# Altium schematic symbol library Device.SchLib: 595 symbols (part 3 of 4)
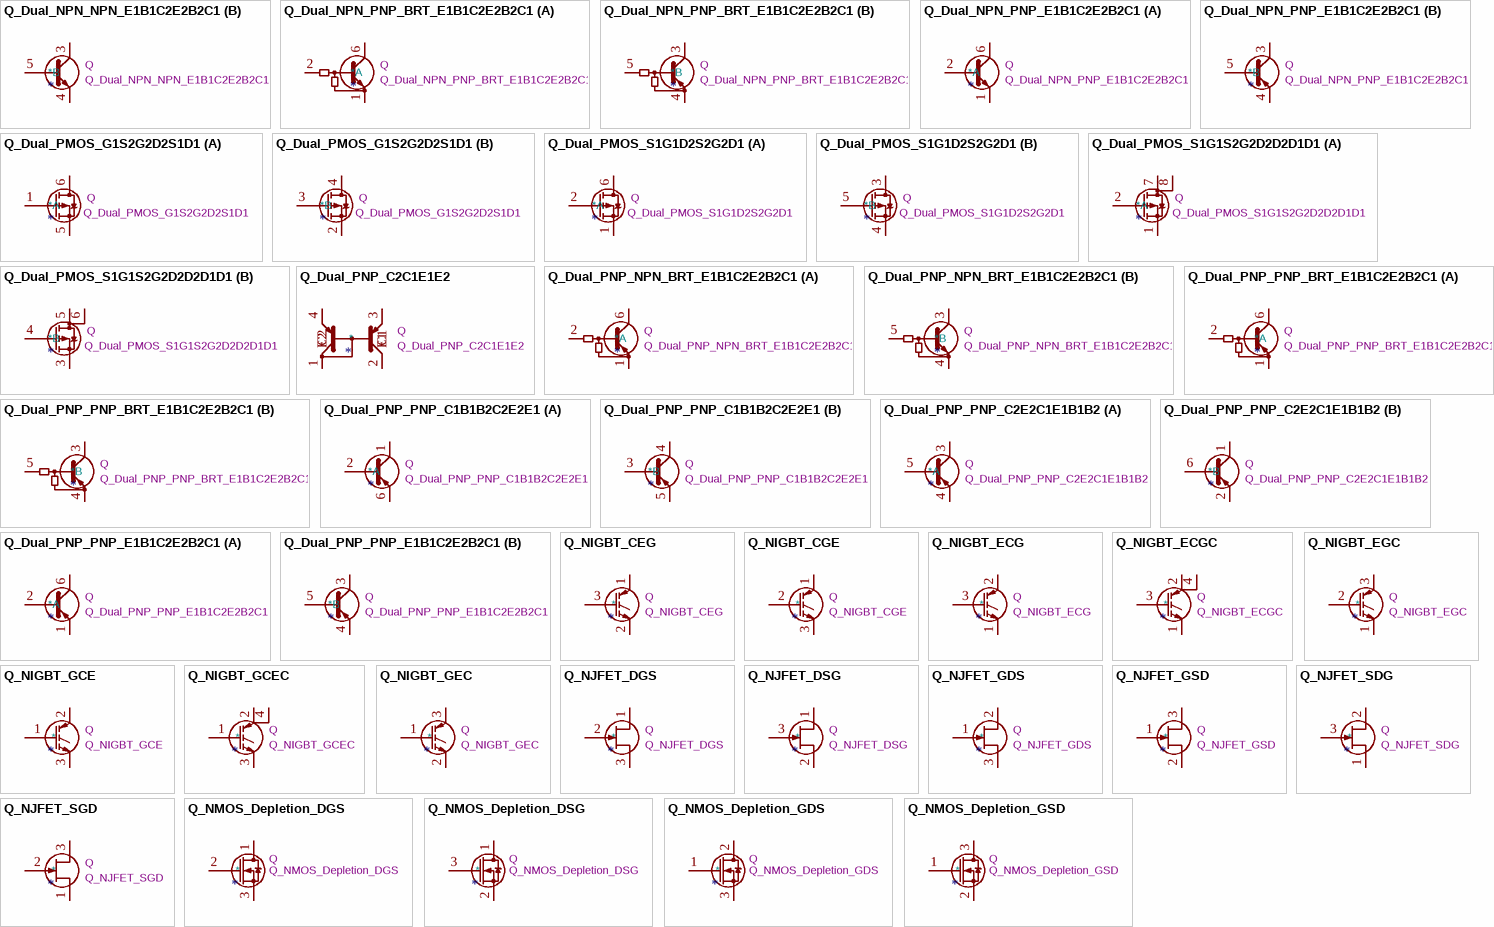
[diagram p22: symbols Q_Dual_NPN_NPN_E1B1C2E2B2C1 to Q_NMOS_Depletion_GSD]

## Q_NMOS_Depletion_DGS
designator *  value Q_NMOS_Depletion_DGS  Reference: Q
Depletion-mode N-channel MOSFET, drain/gate/source; Datasheet: ~; Description_: Depletion-mode N-channel MOSFET, drain/gate/source; ki_keywords: Depletion-mode N-channel MOSFET
pins: 1 D, 2 G, 3 S

## Q_NMOS_Depletion_DSG
designator *  value Q_NMOS_Depletion_DSG  Reference: Q
Depletion-mode N-channel MOSFET drain/source/gate; Datasheet: ~; Description_: Depletion-mode N-channel MOSFET drain/source/gate; ki_keywords: Depletion-mode N-channel MOSFET
pins: 1 D, 2 S, 3 G

## Q_NMOS_Depletion_GDS
designator *  value Q_NMOS_Depletion_GDS  Reference: Q
Depletion-mode N-channel MOSFET gate/drain/source; Datasheet: ~; Description_: Depletion-mode N-channel MOSFET gate/drain/source; ki_keywords: Depletion-mode N-channel MOSFET
pins: 1 G, 2 D, 3 S

## Q_NMOS_Depletion_GSD
designator *  value Q_NMOS_Depletion_GSD  Reference: Q
Depletion-mode N-channel MOSFET gate/source/drain; Datasheet: ~; Description_: Depletion-mode N-channel MOSFET gate/source/drain; ki_keywords: Depletion-mode N-channel MOSFET
pins: 1 G, 2 S, 3 D

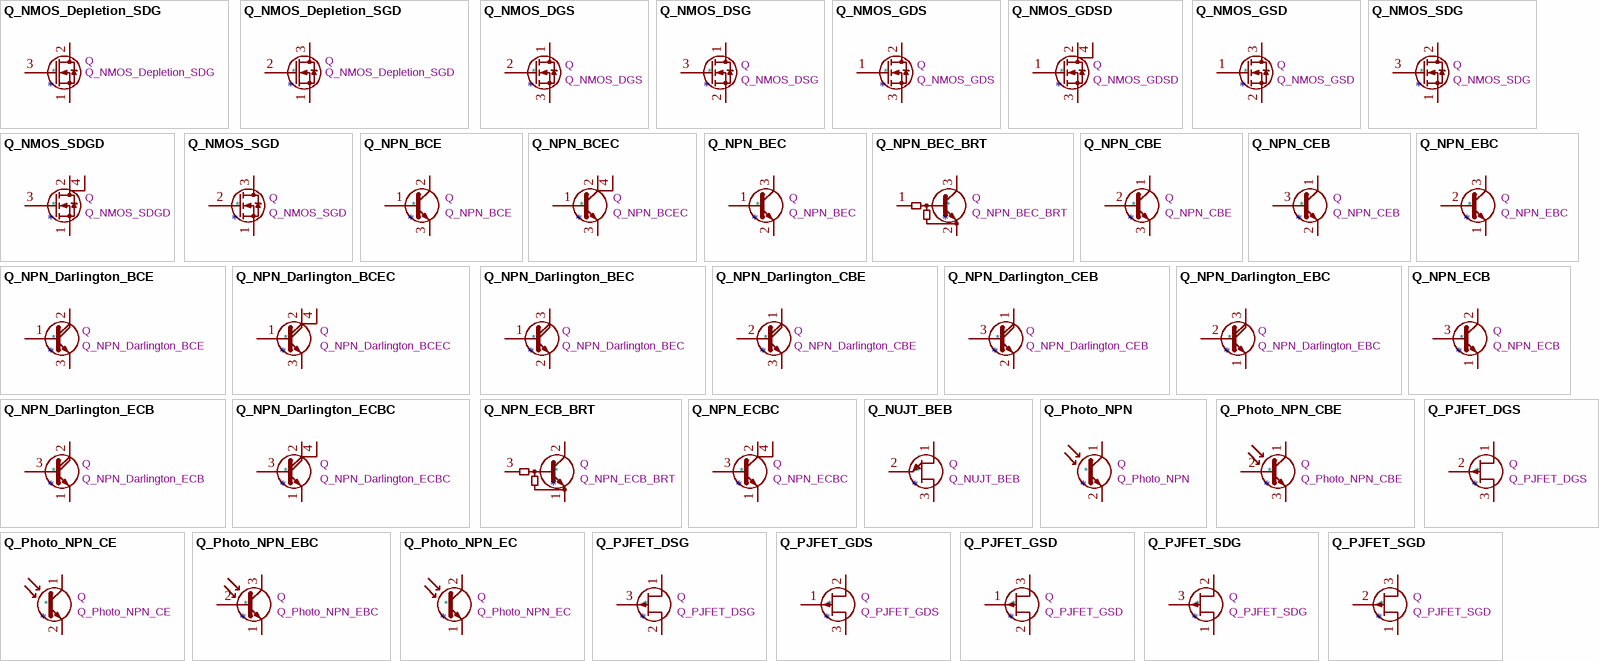
[diagram p11: symbols Q_NMOS_Depletion_SDG to Q_PJFET_SGD]

## Q_NMOS_Depletion_SDG
designator *  value Q_NMOS_Depletion_SDG  Reference: Q
Depletion-mode N-channel MOSFET source/drain/gate; Datasheet: ~; Description_: Depletion-mode N-channel MOSFET source/drain/gate; ki_keywords: Depletion-mode N-channel MOSFET
pins: 1 S, 2 D, 3 G

## Q_NMOS_Depletion_SGD
designator *  value Q_NMOS_Depletion_SGD  Reference: Q
Depletion-mode N-channel MOSFET source/gate/drain; Datasheet: ~; Description_: Depletion-mode N-channel MOSFET source/gate/drain; ki_keywords: Depletion-mode N-channel MOSFET
pins: 1 S, 2 G, 3 D

## Q_NMOS_DGS
designator *  value Q_NMOS_DGS  Reference: Q
N-MOSFET transistor, drain/gate/source; ki_keywords: transistor NMOS N-MOS N-MOSFET; Datasheet: ~; Description_: N-MOSFET transistor, drain/gate/source
pins: 1 D, 2 G, 3 S

## Q_NMOS_DSG
designator *  value Q_NMOS_DSG  Reference: Q
N-MOSFET transistor, drain/source/gate; ki_keywords: transistor NMOS N-MOS N-MOSFET; Datasheet: ~; Description_: N-MOSFET transistor, drain/source/gate
pins: 1 D, 2 S, 3 G

## Q_NMOS_GDS
designator *  value Q_NMOS_GDS  Reference: Q
N-MOSFET transistor, gate/drain/source; ki_keywords: transistor NMOS N-MOS N-MOSFET; Datasheet: ~; Description_: N-MOSFET transistor, gate/drain/source
pins: 1 G, 2 D, 3 S

## Q_NMOS_GDSD
designator *  value Q_NMOS_GDSD  Reference: Q
N-MOSFET transistor, gate/drain/source, drain connected to mounting plane; ki_keywords: transistor NMOS N-MOS N-MOSFET; Datasheet: ~; Description_: N-MOSFET transistor, gate/drain/source, drain connected to mounting plane
pins: 1 G, 2 D, 3 S, 4 D

## Q_NMOS_GSD
designator *  value Q_NMOS_GSD  Reference: Q
N-MOSFET transistor, gate/source/drain; ki_keywords: transistor NMOS N-MOS N-MOSFET; Datasheet: ~; Description_: N-MOSFET transistor, gate/source/drain
pins: 1 G, 2 S, 3 D

## Q_NMOS_SDG
designator *  value Q_NMOS_SDG  Reference: Q
N-MOSFET transistor, source/drain/gate; ki_keywords: transistor NMOS N-MOS N-MOSFET; Datasheet: ~; Description_: N-MOSFET transistor, source/drain/gate
pins: 1 S, 2 D, 3 G

## Q_NMOS_SDGD
designator *  value Q_NMOS_SDGD  Reference: Q
N-MOSFET transistor, source/drain/gate, drain connected to mounting plane; ki_keywords: transistor NMOS N-MOS N-MOSFET; Datasheet: ~; Description_: N-MOSFET transistor, source/drain/gate, drain connected to mounting plane
pins: 1 S, 2 D, 3 G, 4 D

## Q_NMOS_SGD
designator *  value Q_NMOS_SGD  Reference: Q
N-MOSFET transistor, source/gate/drain; ki_keywords: transistor NMOS N-MOS N-MOSFET; Datasheet: ~; Description_: N-MOSFET transistor, source/gate/drain
pins: 1 S, 2 G, 3 D

## Q_NPN_BCE
designator *  value Q_NPN_BCE  Reference: Q
NPN transistor, base/collector/emitter; ki_keywords: transistor NPN; Datasheet: ~; Description_: NPN transistor, base/collector/emitter
pins: 1 B, 2 C, 3 E

## Q_NPN_BCEC
designator *  value Q_NPN_BCEC  Reference: Q
NPN transistor, base/collector/emitter, collector connected to mounting plane; ki_keywords: transistor NPN; Datasheet: ~; Description_: NPN transistor, base/collector/emitter, collector connected to mounting plane
pins: 1 B, 2 C, 3 E, 4 C

## Q_NPN_BEC
designator *  value Q_NPN_BEC  Reference: Q
NPN transistor, base/emitter/collector; ki_keywords: transistor NPN; Datasheet: ~; Description_: NPN transistor, base/emitter/collector
pins: 1 B, 2 E, 3 C

## Q_NPN_BEC_BRT
designator *  value Q_NPN_BEC_BRT  Reference: Q
NPN bias resistor transistor, base/emitter/collector; ki_keywords: transistor NPN; Datasheet: ~; Description_: NPN bias resistor transistor, base/emitter/collector
pins: 1 B, 2 E, 3 C

## Q_NPN_CBE
designator *  value Q_NPN_CBE  Reference: Q
NPN transistor, collector/base/emitter; ki_keywords: transistor NPN; Datasheet: ~; Description_: NPN transistor, collector/base/emitter
pins: 1 C, 2 B, 3 E

## Q_NPN_CEB
designator *  value Q_NPN_CEB  Reference: Q
NPN transistor, collector/emitter/base; ki_keywords: transistor NPN; Datasheet: ~; Description_: NPN transistor, collector/emitter/base
pins: 1 C, 2 E, 3 B

## Q_NPN_Darlington_BCE
designator *  value Q_NPN_Darlington_BCE  Reference: Q
NPN Darlington transistor, base/collector/emitter; ki_keywords: transistor NPN Darlington; Datasheet: ~; Description_: NPN Darlington transistor, base/collector/emitter
pins: 1 B, 2 C, 3 E

## Q_NPN_Darlington_BCEC
designator *  value Q_NPN_Darlington_BCEC  Reference: Q
NPN Darlington transistor, base/collector/emitter, collector connected to mounting plane; ki_keywords: transistor NPN Darlington; Datasheet: ~; Description_: NPN Darlington transistor, base/collector/emitter, collector connected to mounting plane
pins: 1 B, 2 C, 3 E, 4 C2

## Q_NPN_Darlington_BEC
designator *  value Q_NPN_Darlington_BEC  Reference: Q
NPN Darlington transistor, base/emitter/collector; ki_keywords: transistor NPN Darlington; Datasheet: ~; Description_: NPN Darlington transistor, base/emitter/collector
pins: 1 B, 2 E, 3 C

## Q_NPN_Darlington_CBE
designator *  value Q_NPN_Darlington_CBE  Reference: Q
NPN Darlington transistor, collector/base/emitter; ki_keywords: transistor NPN Darlington; Datasheet: ~; Description_: NPN Darlington transistor, collector/base/emitter
pins: 1 C, 2 B, 3 E

## Q_NPN_Darlington_CEB
designator *  value Q_NPN_Darlington_CEB  Reference: Q
NPN Darlington transistor, collector/emitter/base; ki_keywords: transistor NPN Darlington; Datasheet: ~; Description_: NPN Darlington transistor, collector/emitter/base
pins: 1 C, 2 E, 3 B

## Q_NPN_Darlington_EBC
designator *  value Q_NPN_Darlington_EBC  Reference: Q
NPN Darlington transistor, emitter/base/collector; ki_keywords: transistor NPN Darlington; Datasheet: ~; Description_: NPN Darlington transistor, emitter/base/collector
pins: 1 E, 2 B, 3 C

## Q_NPN_Darlington_ECB
designator *  value Q_NPN_Darlington_ECB  Reference: Q
NPN Darlington transistor, emitter/collector/base; ki_keywords: transistor NPN Darlington; Datasheet: ~; Description_: NPN Darlington transistor, emitter/collector/base
pins: 1 E, 2 C, 3 B

## Q_NPN_Darlington_ECBC
designator *  value Q_NPN_Darlington_ECBC  Reference: Q
NPN Darlington transistor, emitter/collector/base, collector connected to mounting plane; ki_keywords: transistor NPN Darlington; Datasheet: ~; Description_: NPN Darlington transistor, emitter/collector/base, collector connected to mounting plane
pins: 1 E, 2 C, 3 B, 4 C2

## Q_NPN_EBC
designator *  value Q_NPN_EBC  Reference: Q
NPN transistor, emitter/base/collector; ki_keywords: transistor NPN; Datasheet: ~; Description_: NPN transistor, emitter/base/collector
pins: 1 E, 2 B, 3 C

## Q_NPN_ECB
designator *  value Q_NPN_ECB  Reference: Q
NPN transistor, emitter/collector/base; ki_keywords: transistor NPN; Datasheet: ~; Description_: NPN transistor, emitter/collector/base
pins: 1 E, 2 C, 3 B

## Q_NPN_ECB_BRT
designator *  value Q_NPN_ECB_BRT  Reference: Q
NPN transistor, emitter/collector/base; ki_keywords: transistor NPN; Datasheet: ~; Description_: NPN transistor, emitter/collector/base
pins: 1 E, 2 C, 3 B

## Q_NPN_ECBC
designator *  value Q_NPN_ECBC  Reference: Q
NPN transistor, emitter/collector/base, collector connected to mounting plane; ki_keywords: transistor NPN; Datasheet: ~; Description_: NPN transistor, emitter/collector/base, collector connected to mounting plane
pins: 1 E, 2 C, 3 B, 4 C

## Q_NUJT_BEB
designator *  value Q_NUJT_BEB  Reference: Q
N-Type unijunction transistor; ki_keywords: transistor UJT; Datasheet: ~; Description_: N-Type unijunction transistor
pins: 1 B2, 2 E, 3 B1

## Q_Photo_NPN
designator *  value Q_Photo_NPN  Reference: Q
NPN phototransistor, collector/emitter; ki_keywords: phototransistor NPN; Datasheet: ~; Description_: NPN phototransistor, collector/emitter
pins: 1 C, 2 E

## Q_Photo_NPN_CBE
designator *  value Q_Photo_NPN_CBE  Reference: Q
NPN phototransistor, collector/base/emitter; ki_keywords: phototransistor NPN; Datasheet: ~; Description_: NPN phototransistor, collector/base/emitter
pins: 1 C, 2 B, 3 E

## Q_Photo_NPN_CE
designator *  value Q_Photo_NPN_CE  Reference: Q
NPN phototransistor, collector/emitter; ki_keywords: phototransistor NPN; Datasheet: ~; Description_: NPN phototransistor, collector/emitter
pins: 1 C, 2 E

## Q_Photo_NPN_EBC
designator *  value Q_Photo_NPN_EBC  Reference: Q
NPN phototransistor, emitter/base/collector; ki_keywords: phototransistor NPN; Datasheet: ~; Description_: NPN phototransistor, emitter/base/collector
pins: 1 E, 2 B, 3 C

## Q_Photo_NPN_EC
designator *  value Q_Photo_NPN_EC  Reference: Q
NPN phototransistor, emitter/collector; ki_keywords: phototransistor NPN; Datasheet: ~; Description_: NPN phototransistor, emitter/collector
pins: 1 E, 2 C

## Q_PJFET_DGS
designator *  value Q_PJFET_DGS  Reference: Q
P-JFET transistor, drain/gate/source; ki_keywords: transistor PJFET P-JFET; Datasheet: ~; Description_: P-JFET transistor, drain/gate/source
pins: 1 D, 2 G, 3 S

## Q_PJFET_DSG
designator *  value Q_PJFET_DSG  Reference: Q
P-JFET transistor, drain/source/gate; ki_keywords: transistor PJFET P-JFET; Datasheet: ~; Description_: P-JFET transistor, drain/source/gate
pins: 1 D, 2 S, 3 G

## Q_PJFET_GDS
designator *  value Q_PJFET_GDS  Reference: Q
P-JFET transistor, gate/drain/source; ki_keywords: transistor PJFET P-JFET; Datasheet: ~; Description_: P-JFET transistor, gate/drain/source
pins: 1 G, 2 D, 3 S

## Q_PJFET_GSD
designator *  value Q_PJFET_GSD  Reference: Q
P-JFET transistor, gate/source/drain; ki_keywords: transistor PJFET P-JFET; Datasheet: ~; Description_: P-JFET transistor, gate/source/drain
pins: 1 G, 2 S, 3 D

## Q_PJFET_SDG
designator *  value Q_PJFET_SDG  Reference: Q
P-JFET transistor, source/drain/gate; ki_keywords: transistor PJFET P-JFET; Datasheet: ~; Description_: P-JFET transistor, source/drain/gate
pins: 1 S, 2 D, 3 G

## Q_PJFET_SGD
designator *  value Q_PJFET_SGD  Reference: Q
P-JFET transistor, source/gate/drain; ki_keywords: transistor PJFET P-JFET; Datasheet: ~; Description_: P-JFET transistor, source/gate/drain
pins: 1 S, 2 G, 3 D

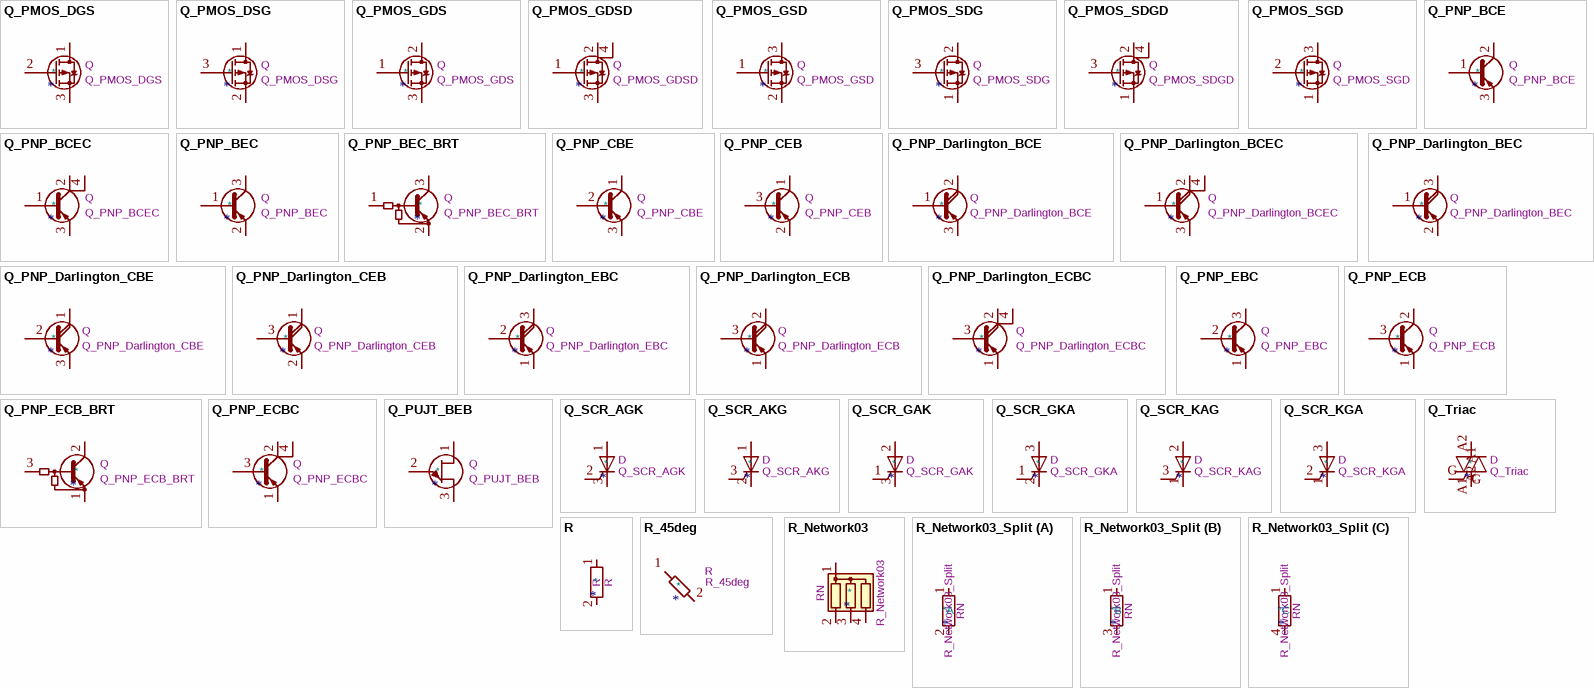
[diagram p12: symbols Q_PMOS_DGS to R_Network03_Split]

## Q_PMOS_DGS
designator *  value Q_PMOS_DGS  Reference: Q
P-MOSFET transistor, drain/gate/source; ki_keywords: transistor PMOS P-MOS P-MOSFET; Datasheet: ~; Description_: P-MOSFET transistor, drain/gate/source
pins: 1 D, 2 G, 3 S

## Q_PMOS_DSG
designator *  value Q_PMOS_DSG  Reference: Q
P-MOSFET transistor, drain/source/gate; ki_keywords: transistor PMOS P-MOS P-MOSFET; Datasheet: ~; Description_: P-MOSFET transistor, drain/source/gate
pins: 1 D, 2 S, 3 G

## Q_PMOS_GDS
designator *  value Q_PMOS_GDS  Reference: Q
P-MOSFET transistor, gate/drain/source; ki_keywords: transistor PMOS P-MOS P-MOSFET; Datasheet: ~; Description_: P-MOSFET transistor, gate/drain/source
pins: 1 G, 2 D, 3 S

## Q_PMOS_GDSD
designator *  value Q_PMOS_GDSD  Reference: Q
P-MOSFET transistor, gate/drain/source, drain connected to mounting plane; ki_keywords: transistor PMOS P-MOS P-MOSFET; Datasheet: ~; Description_: P-MOSFET transistor, gate/drain/source, drain connected to mounting plane
pins: 1 G, 2 D, 3 S, 4 D

## Q_PMOS_GSD
designator *  value Q_PMOS_GSD  Reference: Q
P-MOSFET transistor, gate/source/drain; ki_keywords: transistor PMOS P-MOS P-MOSFET; Datasheet: ~; Description_: P-MOSFET transistor, gate/source/drain
pins: 1 G, 2 S, 3 D

## Q_PMOS_SDG
designator *  value Q_PMOS_SDG  Reference: Q
P-MOSFET transistor, source/drain/gate; ki_keywords: transistor PMOS P-MOS P-MOSFET; Datasheet: ~; Description_: P-MOSFET transistor, source/drain/gate
pins: 1 S, 2 D, 3 G

## Q_PMOS_SDGD
designator *  value Q_PMOS_SDGD  Reference: Q
P-MOSFET transistor, source/drain/gate, drain connected to mounting plane; ki_keywords: transistor PMOS P-MOS P-MOSFET; Datasheet: ~; Description_: P-MOSFET transistor, source/drain/gate, drain connected to mounting plane
pins: 1 S, 2 D, 3 G, 4 D

## Q_PMOS_SGD
designator *  value Q_PMOS_SGD  Reference: Q
P-MOSFET transistor, source/gate/drain; ki_keywords: transistor PMOS P-MOS P-MOSFET; Datasheet: ~; Description_: P-MOSFET transistor, source/gate/drain
pins: 1 S, 2 G, 3 D

## Q_PNP_BCE
designator *  value Q_PNP_BCE  Reference: Q
PNP transistor, base/collector/emitter; ki_keywords: transistor PNP; Datasheet: ~; Description_: PNP transistor, base/collector/emitter
pins: 1 B, 2 C, 3 E

## Q_PNP_BCEC
designator *  value Q_PNP_BCEC  Reference: Q
PNP transistor, base/collector/emitter, collector connected to mounting plane; ki_keywords: transistor PNP; Datasheet: ~; Description_: PNP transistor, base/collector/emitter, collector connected to mounting plane
pins: 1 B, 2 C, 3 E, 4 C

## Q_PNP_BEC
designator *  value Q_PNP_BEC  Reference: Q
PNP transistor, base/emitter/collector; ki_keywords: transistor PNP; Datasheet: ~; Description_: PNP transistor, base/emitter/collector
pins: 1 B, 2 E, 3 C

## Q_PNP_BEC_BRT
designator *  value Q_PNP_BEC_BRT  Reference: Q
PNP bias resistor transistor, base/emitter/collector; ki_keywords: transistor PNP; Datasheet: ~; Description_: PNP bias resistor transistor, base/emitter/collector
pins: 1 B, 2 E, 3 C

## Q_PNP_CBE
designator *  value Q_PNP_CBE  Reference: Q
PNP transistor, collector/base/emitter; ki_keywords: transistor PNP; Datasheet: ~; Description_: PNP transistor, collector/base/emitter
pins: 1 C, 2 B, 3 E

## Q_PNP_CEB
designator *  value Q_PNP_CEB  Reference: Q
PNP transistor, collector/emitter/base; ki_keywords: transistor PNP; Datasheet: ~; Description_: PNP transistor, collector/emitter/base
pins: 1 C, 2 E, 3 B

## Q_PNP_Darlington_BCE
designator *  value Q_PNP_Darlington_BCE  Reference: Q
PNP Darlington transistor, base/collector/emitter; ki_keywords: transistor PNP Darlington; Datasheet: ~; Description_: PNP Darlington transistor, base/collector/emitter
pins: 1 B, 2 C, 3 E

## Q_PNP_Darlington_BCEC
designator *  value Q_PNP_Darlington_BCEC  Reference: Q
PNP Darlington transistor, base/collector/emitter, collector connected to mounting plane; ki_keywords: transistor PNP Darlington; Datasheet: ~; Description_: PNP Darlington transistor, base/collector/emitter, collector connected to mounting plane
pins: 1 B, 2 C, 3 E, 4 C

## Q_PNP_Darlington_BEC
designator *  value Q_PNP_Darlington_BEC  Reference: Q
PNP Darlington transistor, base/emitter/collector; ki_keywords: transistor PNP Darlington; Datasheet: ~; Description_: PNP Darlington transistor, base/emitter/collector
pins: 1 B, 2 E, 3 C

## Q_PNP_Darlington_CBE
designator *  value Q_PNP_Darlington_CBE  Reference: Q
PNP Darlington transistor, collector/base/emitter; ki_keywords: transistor PNP Darlington; Datasheet: ~; Description_: PNP Darlington transistor, collector/base/emitter
pins: 1 C, 2 B, 3 E

## Q_PNP_Darlington_CEB
designator *  value Q_PNP_Darlington_CEB  Reference: Q
PNP Darlington transistor, collector/emitter/base; ki_keywords: transistor PNP Darlington; Datasheet: ~; Description_: PNP Darlington transistor, collector/emitter/base
pins: 1 C, 2 E, 3 B

## Q_PNP_Darlington_EBC
designator *  value Q_PNP_Darlington_EBC  Reference: Q
PNP Darlington transistor, emitter/base/collector; ki_keywords: transistor PNP Darlington; Datasheet: ~; Description_: PNP Darlington transistor, emitter/base/collector
pins: 1 E, 2 B, 3 C

## Q_PNP_Darlington_ECB
designator *  value Q_PNP_Darlington_ECB  Reference: Q
PNP Darlington transistor, emitter/collector/base; ki_keywords: transistor PNP Darlington; Datasheet: ~; Description_: PNP Darlington transistor, emitter/collector/base
pins: 1 E, 2 C, 3 B

## Q_PNP_Darlington_ECBC
designator *  value Q_PNP_Darlington_ECBC  Reference: Q
PNP Darlington transistor, emitter/collector/base, collector connected to mounting plane; ki_keywords: transistor PNP Darlington; Datasheet: ~; Description_: PNP Darlington transistor, emitter/collector/base, collector connected to mounting plane
pins: 1 E, 2 C, 3 B, 4 C

## Q_PNP_EBC
designator *  value Q_PNP_EBC  Reference: Q
PNP transistor, emitter/base/collector; ki_keywords: transistor PNP; Datasheet: ~; Description_: PNP transistor, emitter/base/collector
pins: 1 E, 2 B, 3 C

## Q_PNP_ECB
designator *  value Q_PNP_ECB  Reference: Q
PNP transistor, emitter/collector/base; ki_keywords: transistor PNP; Datasheet: ~; Description_: PNP transistor, emitter/collector/base
pins: 1 E, 2 C, 3 B

## Q_PNP_ECB_BRT
designator *  value Q_PNP_ECB_BRT  Reference: Q
PNP bias resistor transistor, emitter/collector/base; ki_keywords: transistor PNP; Datasheet: ~; Description_: PNP bias resistor transistor, emitter/collector/base
pins: 1 E, 2 C, 3 B

## Q_PNP_ECBC
designator *  value Q_PNP_ECBC  Reference: Q
PNP transistor, emitter/collector/base, collector connected to mounting plane; ki_keywords: transistor PNP; Datasheet: ~; Description_: PNP transistor, emitter/collector/base, collector connected to mounting plane
pins: 1 E, 2 C, 3 B, 4 C

## Q_PUJT_BEB
designator *  value Q_PUJT_BEB  Reference: Q
P-Type unijunction transistor; ki_keywords: transistor UJT; Datasheet: ~; Description_: P-Type unijunction transistor
pins: 1 B2, 2 E, 3 B1

## Q_SCR_AGK
designator *  value Q_SCR_AGK  Reference: D
Silicon controlled rectifier, anode/gate/cathode; ki_keywords: SCR thyristor; Datasheet: ~; Description_: Silicon controlled rectifier, anode/gate/cathode
pins: 1 A, 2 G, 3 K

## Q_SCR_AKG
designator *  value Q_SCR_AKG  Reference: D
Silicon controlled rectifier, anode/cathode/gate; ki_keywords: SCR thyristor; Datasheet: ~; Description_: Silicon controlled rectifier, anode/cathode/gate
pins: 1 A, 2 K, 3 G

## Q_SCR_GAK
designator *  value Q_SCR_GAK  Reference: D
Silicon controlled rectifier, gate/anode/cathode; ki_keywords: SCR thyristor; Datasheet: ~; Description_: Silicon controlled rectifier, gate/anode/cathode
pins: 1 G, 2 A, 3 K

## Q_SCR_GKA
designator *  value Q_SCR_GKA  Reference: D
Silicon controlled rectifier, gate/cathode/anode; ki_keywords: SCR thyristor; Datasheet: ~; Description_: Silicon controlled rectifier, gate/cathode/anode
pins: 1 G, 2 K, 3 A

## Q_SCR_KAG
designator *  value Q_SCR_KAG  Reference: D
Silicon controlled rectifier, cathode/anode/gate; ki_keywords: SCR thyristor; Datasheet: ~; Description_: Silicon controlled rectifier, cathode/anode/gate
pins: 1 K, 2 A, 3 G

## Q_SCR_KGA
designator *  value Q_SCR_KGA  Reference: D
Silicon controlled rectifier, cathode/gate/anode; ki_keywords: SCR thyristor; Datasheet: ~; Description_: Silicon controlled rectifier, cathode/gate/anode
pins: 1 K, 2 G, 3 A

## Q_Triac
designator *  value Q_Triac  Reference: D
Triode for alternating current, generic/no defined pinout; ki_keywords: TRIAC; Datasheet: ~; Description_: Triode for alternating current, generic/no defined pinout
pins: A1, A2, G

## R
designator *  value R
Resistor; ki_keywords: R res resistor; ki_fp_filters: R_*; Reference: R; Datasheet: ~; Description_: Resistor
pins: 1, 2

## R_45deg
designator *  value R_45deg  Reference: R
Resistor, rotated by 45°; ki_keywords: R res resistor diagonal; ki_fp_filters: R_*; Datasheet: ~; Description_: Resistor, rotated by 45°
pins: 1, 2

## R_Network03
designator *  value R_Network03  Reference: RN
3 resistor network, star topology, bussed resistors, small symbol; ki_keywords: R network star-topology; ki_fp_filters: R?Array?SIP*; Footprint: Resistor_THT:R_Array_SIP4; Datasheet: http://www.vishay.com/docs/31509/csc.pdf; Description_: 3 resistor network, star topology, bussed resistors, small symbol
pins: 1 common, 2 R1, 3 R2, 4 R3

## R_Network03_Split
designator *  value R_Network03_Split  Reference: RN
3 resistor network, star topology, bussed resistors, split; ki_keywords: R network star-topology; ki_fp_filters: R?Array?SIP*; Footprint: Resistor_THT:R_Array_SIP4; Datasheet: http://www.vishay.com/docs/31509/csc.pdf; Description_: 3 resistor network, star topology, bussed resistors, split
part A pins: 1 R1, 2 R1.2
part B pins: 1 R1, 3 R2.2
part C pins: 1 R1, 4 R3.2

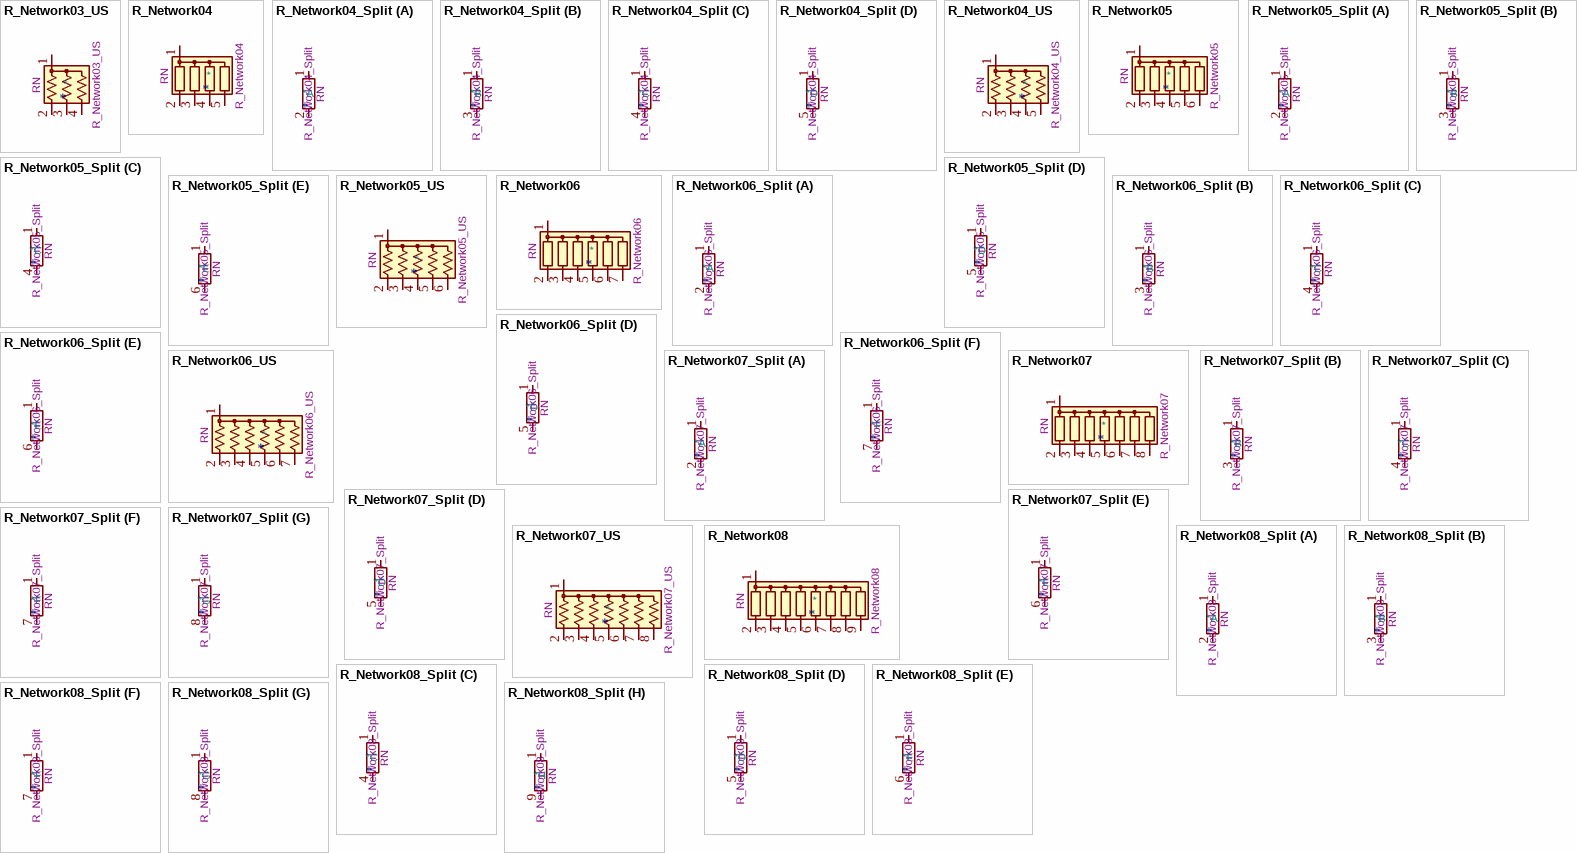
[diagram p13: symbols R_Network03_US to R_Network08_Split]

## R_Network03_US
designator *  value R_Network03_US  Reference: RN
3 resistor network, star topology, bussed resistors, small US symbol; ki_keywords: R network star-topology; ki_fp_filters: R?Array?SIP*; Footprint: Resistor_THT:R_Array_SIP4; Datasheet: http://www.vishay.com/docs/31509/csc.pdf; Description_: 3 resistor network, star topology, bussed resistors, small US symbol
pins: 1 common, 2 R1, 3 R2, 4 R3

## R_Network04
designator *  value R_Network04  Reference: RN
4 resistor network, star topology, bussed resistors, small symbol; ki_keywords: R network star-topology; ki_fp_filters: R?Array?SIP*; Footprint: Resistor_THT:R_Array_SIP5; Datasheet: http://www.vishay.com/docs/31509/csc.pdf; Description_: 4 resistor network, star topology, bussed resistors, small symbol
pins: 1 common, 2 R1, 3 R2, 4 R3, 5 R4

## R_Network04_Split
designator *  value R_Network04_Split  Reference: RN
4 resistor network, star topology, bussed resistors, split; ki_keywords: R network star-topology; ki_fp_filters: R?Array?SIP*; Footprint: Resistor_THT:R_Array_SIP5; Datasheet: http://www.vishay.com/docs/31509/csc.pdf; Description_: 4 resistor network, star topology, bussed resistors, split
part A pins: 1 R1, 2 R1.2
part B pins: 1 R1, 3 R2.2
part C pins: 1 R1, 4 R3.2
part D pins: 1 R1, 5 R4.2

## R_Network04_US
designator *  value R_Network04_US  Reference: RN
4 resistor network, star topology, bussed resistors, small US symbol; ki_keywords: R network star-topology; ki_fp_filters: R?Array?SIP*; Footprint: Resistor_THT:R_Array_SIP5; Datasheet: http://www.vishay.com/docs/31509/csc.pdf; Description_: 4 resistor network, star topology, bussed resistors, small US symbol
pins: 1 common, 2 R1, 3 R2, 4 R3, 5 R4

## R_Network05
designator *  value R_Network05  Reference: RN
5 resistor network, star topology, bussed resistors, small symbol; ki_keywords: R network star-topology; ki_fp_filters: R?Array?SIP*; Footprint: Resistor_THT:R_Array_SIP6; Datasheet: http://www.vishay.com/docs/31509/csc.pdf; Description_: 5 resistor network, star topology, bussed resistors, small symbol
pins: 1 common, 2 R1, 3 R2, 4 R3, 5 R4, 6 R5

## R_Network05_Split
designator *  value R_Network05_Split  Reference: RN
5 resistor network, star topology, bussed resistors, split; ki_keywords: R network star-topology; ki_fp_filters: R?Array?SIP*; Footprint: Resistor_THT:R_Array_SIP6; Datasheet: http://www.vishay.com/docs/31509/csc.pdf; Description_: 5 resistor network, star topology, bussed resistors, split
part A pins: 1 R1, 2 R1.2
part B pins: 1 R1, 3 R2.2
part C pins: 1 R1, 4 R3.2
part D pins: 1 R1, 5 R4.2
part E pins: 1 R1, 6 R5.2

## R_Network05_US
designator *  value R_Network05_US  Reference: RN
5 resistor network, star topology, bussed resistors, small US symbol; ki_keywords: R network star-topology; ki_fp_filters: R?Array?SIP*; Footprint: Resistor_THT:R_Array_SIP6; Datasheet: http://www.vishay.com/docs/31509/csc.pdf; Description_: 5 resistor network, star topology, bussed resistors, small US symbol
pins: 1 common, 2 R1, 3 R2, 4 R3, 5 R4, 6 R5

## R_Network06
designator *  value R_Network06  Reference: RN
6 resistor network, star topology, bussed resistors, small symbol; ki_keywords: R network star-topology; ki_fp_filters: R?Array?SIP*; Footprint: Resistor_THT:R_Array_SIP7; Datasheet: http://www.vishay.com/docs/31509/csc.pdf; Description_: 6 resistor network, star topology, bussed resistors, small symbol
pins: 1 common, 2 R1, 3 R2, 4 R3, 5 R4, 6 R5, 7 R6

## R_Network06_Split
designator *  value R_Network06_Split  Reference: RN
6 resistor network, star topology, bussed resistors, split; ki_keywords: R network star-topology; ki_fp_filters: R?Array?SIP*; Footprint: Resistor_THT:R_Array_SIP7; Datasheet: http://www.vishay.com/docs/31509/csc.pdf; Description_: 6 resistor network, star topology, bussed resistors, split
part A pins: 1 R1, 2 R1.2
part B pins: 1 R1, 3 R2.2
part C pins: 1 R1, 4 R3.2
part D pins: 1 R1, 5 R4.2
part E pins: 1 R1, 6 R5.2
part F pins: 1 R1, 7 R6.2

## R_Network06_US
designator *  value R_Network06_US  Reference: RN
6 resistor network, star topology, bussed resistors, small US symbol; ki_keywords: R network star-topology; ki_fp_filters: R?Array?SIP*; Footprint: Resistor_THT:R_Array_SIP7; Datasheet: http://www.vishay.com/docs/31509/csc.pdf; Description_: 6 resistor network, star topology, bussed resistors, small US symbol
pins: 1 common, 2 R1, 3 R2, 4 R3, 5 R4, 6 R5, 7 R6

## R_Network07
designator *  value R_Network07  Reference: RN
7 resistor network, star topology, bussed resistors, small symbol; ki_keywords: R network star-topology; ki_fp_filters: R?Array?SIP*; Footprint: Resistor_THT:R_Array_SIP8; Datasheet: http://www.vishay.com/docs/31509/csc.pdf; Description_: 7 resistor network, star topology, bussed resistors, small symbol
pins: 1 common, 2 R1, 3 R2, 4 R3, 5 R4, 6 R5, 7 R6, 8 R7

## R_Network07_Split
designator *  value R_Network07_Split  Reference: RN
7 resistor network, star topology, bussed resistors, split; ki_keywords: R network star-topology; ki_fp_filters: R?Array?SIP*; Footprint: Resistor_THT:R_Array_SIP8; Datasheet: http://www.vishay.com/docs/31509/csc.pdf; Description_: 7 resistor network, star topology, bussed resistors, split
part A pins: 1 R1, 2 R1.2
part B pins: 1 R1, 3 R2.2
part C pins: 1 R1, 4 R3.2
part D pins: 1 R1, 5 R4.2
part E pins: 1 R1, 6 R5.2
part F pins: 1 R1, 7 R6.2
part G pins: 1 R1, 8 R7.2

## R_Network07_US
designator *  value R_Network07_US  Reference: RN
7 resistor network, star topology, bussed resistors, small US symbol; ki_keywords: R network star-topology; ki_fp_filters: R?Array?SIP*; Footprint: Resistor_THT:R_Array_SIP8; Datasheet: http://www.vishay.com/docs/31509/csc.pdf; Description_: 7 resistor network, star topology, bussed resistors, small US symbol
pins: 1 common, 2 R1, 3 R2, 4 R3, 5 R4, 6 R5, 7 R6, 8 R7

## R_Network08
designator *  value R_Network08  Reference: RN
8 resistor network, star topology, bussed resistors, small symbol; ki_keywords: R network star-topology; ki_fp_filters: R?Array?SIP*; Footprint: Resistor_THT:R_Array_SIP9; Datasheet: http://www.vishay.com/docs/31509/csc.pdf; Description_: 8 resistor network, star topology, bussed resistors, small symbol
pins: 1 common, 2 R1, 3 R2, 4 R3, 5 R4, 6 R5, 7 R6, 8 R7, 9 R8

## R_Network08_Split
designator *  value R_Network08_Split  Reference: RN
8 resistor network, star topology, bussed resistors, split; ki_keywords: R network star-topology; ki_fp_filters: R?Array?SIP*; Footprint: Resistor_THT:R_Array_SIP9; Datasheet: http://www.vishay.com/docs/31509/csc.pdf; Description_: 8 resistor network, star topology, bussed resistors, split
part A pins: 1 R1, 2 R1.2
part B pins: 1 R1, 3 R2.2
part C pins: 1 R1, 4 R3.2
part D pins: 1 R1, 5 R4.2
part E pins: 1 R1, 6 R5.2
part F pins: 1 R1, 7 R6.2
part G pins: 1 R1, 8 R7.2
part H pins: 1 R1, 9 R8.2

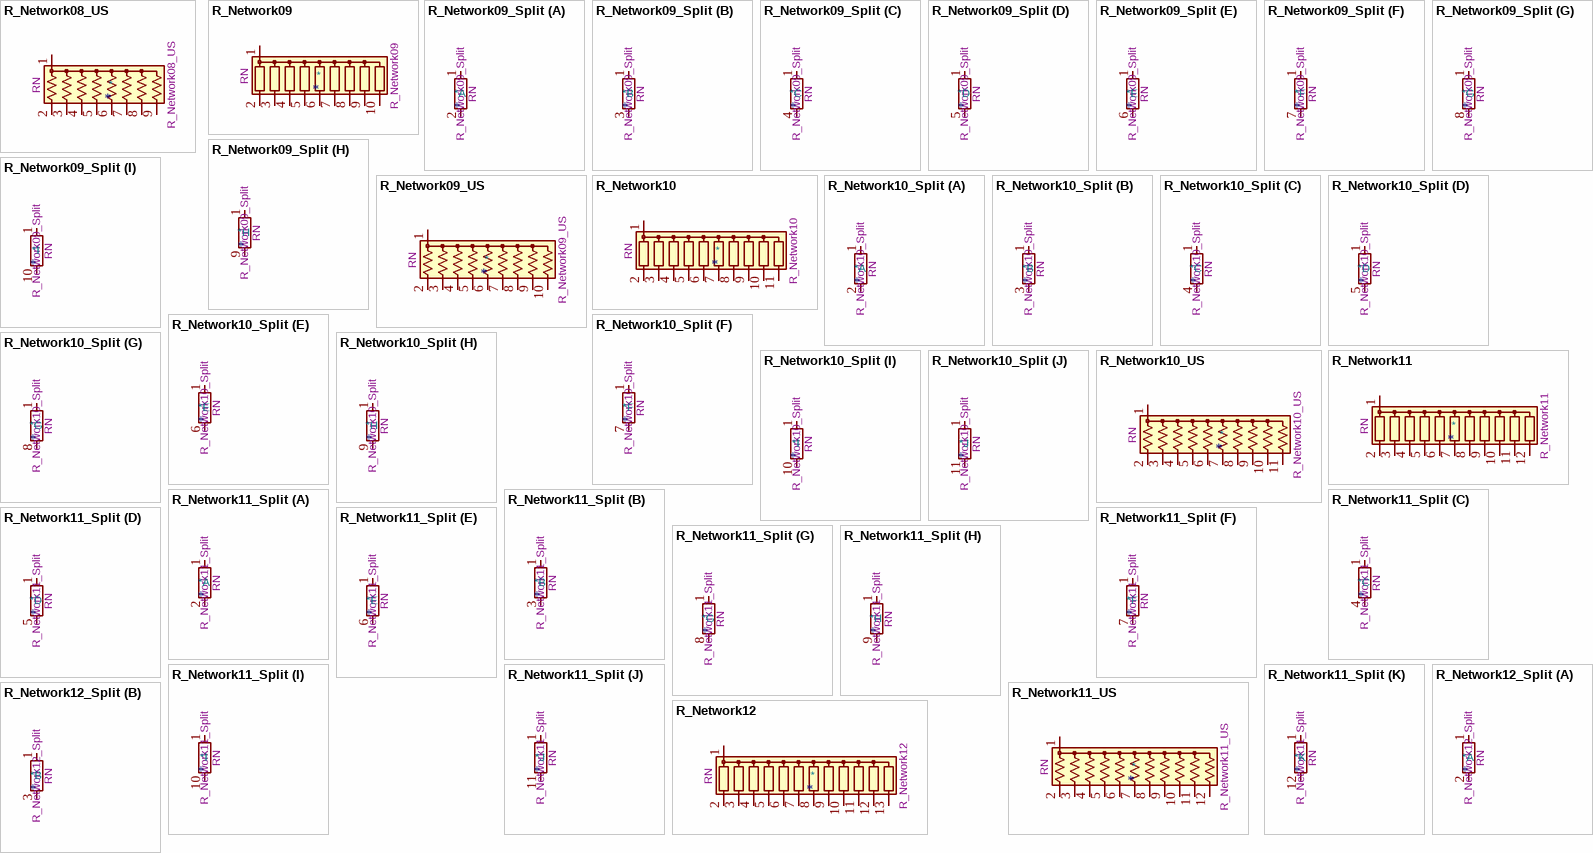
[diagram p14: symbols R_Network08_US to R_Network12_Split]

## R_Network08_US
designator *  value R_Network08_US  Reference: RN
8 resistor network, star topology, bussed resistors, small US symbol; ki_keywords: R network star-topology; ki_fp_filters: R?Array?SIP*; Footprint: Resistor_THT:R_Array_SIP9; Datasheet: http://www.vishay.com/docs/31509/csc.pdf; Description_: 8 resistor network, star topology, bussed resistors, small US symbol
pins: 1 common, 2 R1, 3 R2, 4 R3, 5 R4, 6 R5, 7 R6, 8 R7, 9 R8

## R_Network09
designator *  value R_Network09  Reference: RN
9 resistor network, star topology, bussed resistors, small symbol; ki_keywords: R network star-topology; ki_fp_filters: R?Array?SIP*; Footprint: Resistor_THT:R_Array_SIP10; Datasheet: http://www.vishay.com/docs/31509/csc.pdf; Description_: 9 resistor network, star topology, bussed resistors, small symbol
pins: 1 common, 2 R1, 3 R2, 4 R3, 5 R4, 6 R5, 7 R6, 8 R7, 9 R8, 10 R9

## R_Network09_Split
designator *  value R_Network09_Split  Reference: RN
9 resistor network, star topology, bussed resistors, split; ki_keywords: R network star-topology; ki_fp_filters: R?Array?SIP*; Footprint: Resistor_THT:R_Array_SIP10; Datasheet: http://www.vishay.com/docs/31509/csc.pdf; Description_: 9 resistor network, star topology, bussed resistors, split
part A pins: 1 R1, 2 R1.2
part B pins: 1 R1, 3 R2.2
part C pins: 1 R1, 4 R3.2
part D pins: 1 R1, 5 R4.2
part E pins: 1 R1, 6 R5.2
part F pins: 1 R1, 7 R6.2
part G pins: 1 R1, 8 R7.2
part H pins: 1 R1, 9 R8.2
part I pins: 1 R1, 10 R9.2

## R_Network09_US
designator *  value R_Network09_US  Reference: RN
9 resistor network, star topology, bussed resistors, small US symbol; ki_keywords: R network star-topology; ki_fp_filters: R?Array?SIP*; Footprint: Resistor_THT:R_Array_SIP10; Datasheet: http://www.vishay.com/docs/31509/csc.pdf; Description_: 9 resistor network, star topology, bussed resistors, small US symbol
pins: 1 common, 2 R1, 3 R2, 4 R3, 5 R4, 6 R5, 7 R6, 8 R7, 9 R8, 10 R9

## R_Network10
designator *  value R_Network10  Reference: RN
10 resistor network, star topology, bussed resistors, small symbol; ki_keywords: R network star-topology; ki_fp_filters: R?Array?SIP*; Footprint: Resistor_THT:R_Array_SIP11; Datasheet: http://www.vishay.com/docs/31509/csc.pdf; Description_: 10 resistor network, star topology, bussed resistors, small symbol
pins: 1 common, 2 R1, 3 R2, 4 R3, 5 R4, 6 R5, 7 R6, 8 R7, 9 R8, 10 R9, 11 R10

## R_Network10_Split
designator *  value R_Network10_Split  Reference: RN
10 resistor network, star topology, bussed resistors, split; ki_keywords: R network star-topology; ki_fp_filters: R?Array?SIP*; Footprint: Resistor_THT:R_Array_SIP11; Datasheet: http://www.vishay.com/docs/31509/csc.pdf; Description_: 10 resistor network, star topology, bussed resistors, split
part A pins: 1 R1, 2 R1.2
part B pins: 1 R1, 3 R2.2
part C pins: 1 R1, 4 R3.2
part D pins: 1 R1, 5 R4.2
part E pins: 1 R1, 6 R5.2
part F pins: 1 R1, 7 R6.2
part G pins: 1 R1, 8 R7.2
part H pins: 1 R1, 9 R8.2
part I pins: 1 R1, 10 R9.2
part J pins: 1 R1, 11 R10.2

## R_Network10_US
designator *  value R_Network10_US  Reference: RN
10 resistor network, star topology, bussed resistors, small US symbol; ki_keywords: R network star-topology; ki_fp_filters: R?Array?SIP*; Footprint: Resistor_THT:R_Array_SIP11; Datasheet: http://www.vishay.com/docs/31509/csc.pdf; Description_: 10 resistor network, star topology, bussed resistors, small US symbol
pins: 1 common, 2 R1, 3 R2, 4 R3, 5 R4, 6 R5, 7 R6, 8 R7, 9 R8, 10 R9, 11 R10

## R_Network11
designator *  value R_Network11  Reference: RN
11 resistor network, star topology, bussed resistors, small symbol; ki_keywords: R network star-topology; ki_fp_filters: R?Array?SIP*; Footprint: Resistor_THT:R_Array_SIP12; Datasheet: http://www.vishay.com/docs/31509/csc.pdf; Description_: 11 resistor network, star topology, bussed resistors, small symbol
pins: 1 common, 2 R1, 3 R2, 4 R3, 5 R4, 6 R5, 7 R6, 8 R7, 9 R8, 10 R9, 11 R10, 12 R11

## R_Network11_Split
designator *  value R_Network11_Split  Reference: RN
11 resistor network, star topology, bussed resistors, split; ki_keywords: R network star-topology; ki_fp_filters: R?Array?SIP*; Footprint: Resistor_THT:R_Array_SIP12; Datasheet: http://www.vishay.com/docs/31509/csc.pdf; Description_: 11 resistor network, star topology, bussed resistors, split
part A pins: 1 R1, 2 R1.2
part B pins: 1 R1, 3 R2.2
part C pins: 1 R1, 4 R3.2
part D pins: 1 R1, 5 R4.2
part E pins: 1 R1, 6 R5.2
part F pins: 1 R1, 7 R6.2
part G pins: 1 R1, 8 R7.2
part H pins: 1 R1, 9 R8.2
part I pins: 1 R1, 10 R9.2
part J pins: 1 R1, 11 R10.2
part K pins: 1 R1, 12 R11.2

## R_Network11_US
designator *  value R_Network11_US  Reference: RN
11 resistor network, star topology, bussed resistors, small US symbol; ki_keywords: R network star-topology; ki_fp_filters: R?Array?SIP*; Footprint: Resistor_THT:R_Array_SIP12; Datasheet: http://www.vishay.com/docs/31509/csc.pdf; Description_: 11 resistor network, star topology, bussed resistors, small US symbol
pins: 1 common, 2 R1, 3 R2, 4 R3, 5 R4, 6 R5, 7 R6, 8 R7, 9 R8, 10 R9, 11 R10, 12 R11

## R_Network12
designator *  value R_Network12  Reference: RN
12 resistor network, star topology, bussed resistors, small symbol; ki_keywords: R network star-topology; ki_fp_filters: R?Array?SIP*; Footprint: Resistor_THT:R_Array_SIP13; Datasheet: http://www.vishay.com/docs/31509/csc.pdf; Description_: 12 resistor network, star topology, bussed resistors, small symbol
pins: 1 common, 2 R1, 3 R2, 4 R3, 5 R4, 6 R5, 7 R6, 8 R7, 9 R8, 10 R9, 11 R10, 12 R11, 13 R12

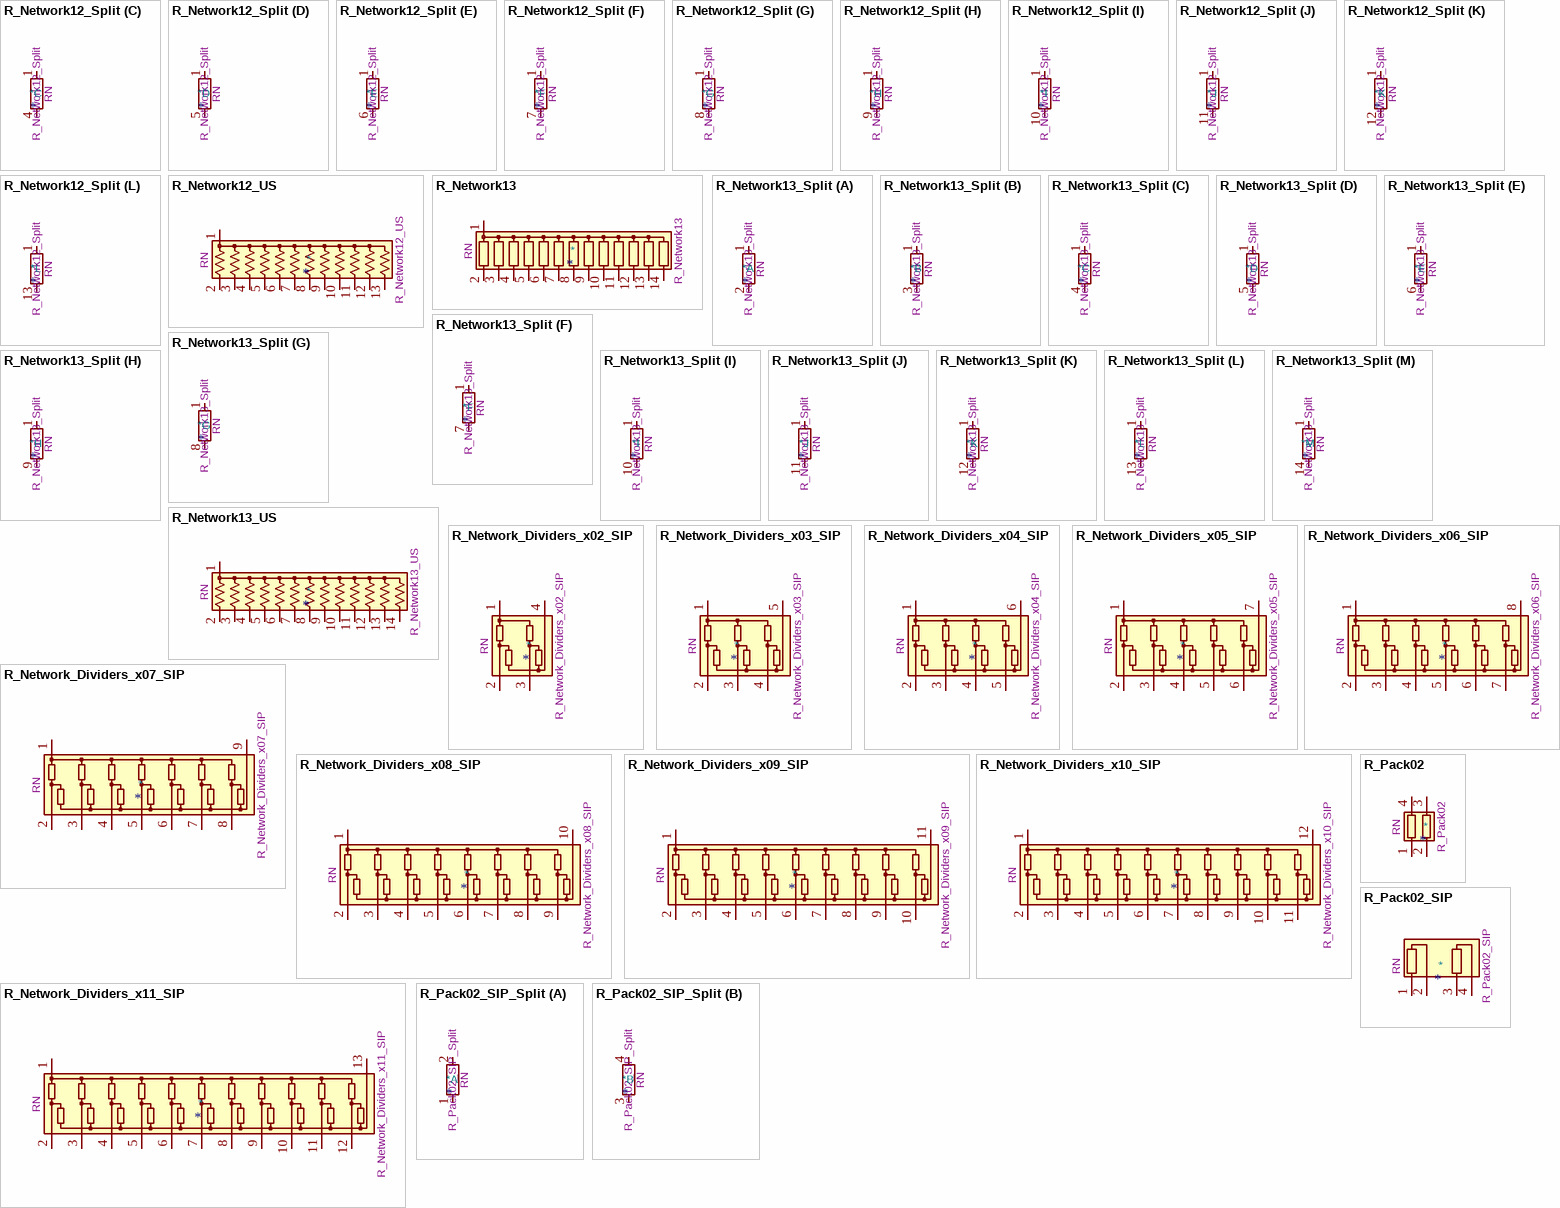
[diagram p15: symbols R_Network12_Split to R_Pack02_SIP_Split]

## R_Network12_Split
designator *  value R_Network12_Split  Reference: RN
12 resistor network, star topology, bussed resistors, split; ki_keywords: R network star-topology; ki_fp_filters: R?Array?SIP*; Footprint: Resistor_THT:R_Array_SIP13; Datasheet: http://www.vishay.com/docs/31509/csc.pdf; Description_: 12 resistor network, star topology, bussed resistors, split
part A pins: 1 R1, 2 R1.2
part B pins: 1 R1, 3 R2.2
part C pins: 1 R1, 4 R3.2
part D pins: 1 R1, 5 R4.2
part E pins: 1 R1, 6 R5.2
part F pins: 1 R1, 7 R6.2
part G pins: 1 R1, 8 R7.2
part H pins: 1 R1, 9 R8.2
part I pins: 1 R1, 10 R9.2
part J pins: 1 R1, 11 R10.2
part K pins: 1 R1, 12 R11.2
part L pins: 1 R1, 13 R12.2

## R_Network12_US
designator *  value R_Network12_US  Reference: RN
12 resistor network, star topology, bussed resistors, small US symbol; ki_keywords: R network star-topology; ki_fp_filters: R?Array?SIP*; Footprint: Resistor_THT:R_Array_SIP13; Datasheet: http://www.vishay.com/docs/31509/csc.pdf; Description_: 12 resistor network, star topology, bussed resistors, small US symbol
pins: 1 common, 2 R1, 3 R2, 4 R3, 5 R4, 6 R5, 7 R6, 8 R7, 9 R8, 10 R9, 11 R10, 12 R11, 13 R12

## R_Network13
designator *  value R_Network13  Reference: RN
13 resistor network, star topology, bussed resistors, small symbol; ki_keywords: R network star-topology; ki_fp_filters: R?Array?SIP*; Footprint: Resistor_THT:R_Array_SIP14; Datasheet: http://www.vishay.com/docs/31509/csc.pdf; Description_: 13 resistor network, star topology, bussed resistors, small symbol
pins: 1 common, 2 R1, 3 R2, 4 R3, 5 R4, 6 R5, 7 R6, 8 R7, 9 R8, 10 R9, 11 R10, 12 R11, 13 R12, 14 R13

## R_Network13_Split
designator *  value R_Network13_Split  Reference: RN
13 resistor network, star topology, bussed resistors, split; ki_keywords: R network star-topology; ki_fp_filters: R?Array?SIP*; Footprint: Resistor_THT:R_Array_SIP14; Datasheet: http://www.vishay.com/docs/31509/csc.pdf; Description_: 13 resistor network, star topology, bussed resistors, split
part A pins: 1 R1, 2 R1.2
part B pins: 1 R1, 3 R2.2
part C pins: 1 R1, 4 R3.2
part D pins: 1 R1, 5 R4.2
part E pins: 1 R1, 6 R5.2
part F pins: 1 R1, 7 R6.2
part G pins: 1 R1, 8 R7.2
part H pins: 1 R1, 9 R8.2
part I pins: 1 R1, 10 R9.2
part J pins: 1 R1, 11 R10.2
part K pins: 1 R1, 12 R11.2
part L pins: 1 R1, 13 R12.2
part M pins: 1 R1, 14 R13.2

## R_Network13_US
designator *  value R_Network13_US  Reference: RN
13 resistor network, star topology, bussed resistors, small US symbol; ki_keywords: R network star-topology; ki_fp_filters: R?Array?SIP*; Footprint: Resistor_THT:R_Array_SIP14; Datasheet: http://www.vishay.com/docs/31509/csc.pdf; Description_: 13 resistor network, star topology, bussed resistors, small US symbol
pins: 1 common, 2 R1, 3 R2, 4 R3, 5 R4, 6 R5, 7 R6, 8 R7, 9 R8, 10 R9, 11 R10, 12 R11, 13 R12, 14 R13

## R_Network_Dividers_x02_SIP
designator *  value R_Network_Dividers_x02_SIP  Reference: RN
2 voltage divider network, dual terminator, SIP package; ki_keywords: R network divider topology; ki_fp_filters: R?Array?SIP*; Footprint: Resistor_THT:R_Array_SIP4; Datasheet: http://www.vishay.com/docs/31509/csc.pdf; Description_: 2 voltage divider network, dual terminator, SIP package
pins: 1 COM1, 2 R1, 3 R2, 4 COM2

## R_Network_Dividers_x03_SIP
designator *  value R_Network_Dividers_x03_SIP  Reference: RN
3 voltage divider network, dual terminator, SIP package; ki_keywords: R network divider topology; ki_fp_filters: R?Array?SIP*; Footprint: Resistor_THT:R_Array_SIP5; Datasheet: http://www.vishay.com/docs/31509/csc.pdf; Description_: 3 voltage divider network, dual terminator, SIP package
pins: 1 COM1, 2 R1, 3 R2, 4 R3, 5 COM2

## R_Network_Dividers_x04_SIP
designator *  value R_Network_Dividers_x04_SIP  Reference: RN
4 voltage divider network, dual terminator, SIP package; ki_keywords: R network divider topology; ki_fp_filters: R?Array?SIP*; Footprint: Resistor_THT:R_Array_SIP6; Datasheet: http://www.vishay.com/docs/31509/csc.pdf; Description_: 4 voltage divider network, dual terminator, SIP package
pins: 1 COM1, 2 R1, 3 R2, 4 R3, 5 R4, 6 COM2

## R_Network_Dividers_x05_SIP
designator *  value R_Network_Dividers_x05_SIP  Reference: RN
5 voltage divider network, dual terminator, SIP package; ki_keywords: R network divider topology; ki_fp_filters: R?Array?SIP*; Footprint: Resistor_THT:R_Array_SIP7; Datasheet: http://www.vishay.com/docs/31509/csc.pdf; Description_: 5 voltage divider network, dual terminator, SIP package
pins: 1 COM1, 2 R1, 3 R2, 4 R3, 5 R4, 6 R5, 7 COM2

## R_Network_Dividers_x06_SIP
designator *  value R_Network_Dividers_x06_SIP  Reference: RN
6 voltage divider network, dual terminator, SIP package; ki_keywords: R network divider topology; ki_fp_filters: R?Array?SIP*; Footprint: Resistor_THT:R_Array_SIP8; Datasheet: http://www.vishay.com/docs/31509/csc.pdf; Description_: 6 voltage divider network, dual terminator, SIP package
pins: 1 COM1, 2 R1, 3 R2, 4 R3, 5 R4, 6 R5, 7 R6, 8 COM2

## R_Network_Dividers_x07_SIP
designator *  value R_Network_Dividers_x07_SIP  Reference: RN
7 voltage divider network, dual terminator, SIP package; ki_keywords: R network divider topology; ki_fp_filters: R?Array?SIP*; Footprint: Resistor_THT:R_Array_SIP9; Datasheet: http://www.vishay.com/docs/31509/csc.pdf; Description_: 7 voltage divider network, dual terminator, SIP package
pins: 1 COM1, 2 R1, 3 R2, 4 R3, 5 R4, 6 R5, 7 R6, 8 R7, 9 COM2

## R_Network_Dividers_x08_SIP
designator *  value R_Network_Dividers_x08_SIP  Reference: RN
8 voltage divider network, dual terminator, SIP package; ki_keywords: R network divider topology; ki_fp_filters: R?Array?SIP*; Footprint: Resistor_THT:R_Array_SIP10; Datasheet: http://www.vishay.com/docs/31509/csc.pdf; Description_: 8 voltage divider network, dual terminator, SIP package
pins: 1 COM1, 2 R1, 3 R2, 4 R3, 5 R4, 6 R5, 7 R6, 8 R7, 9 R8, 10 COM2

## R_Network_Dividers_x09_SIP
designator *  value R_Network_Dividers_x09_SIP  Reference: RN
9 voltage divider network, dual terminator, SIP package; ki_keywords: R network divider topology; ki_fp_filters: R?Array?SIP*; Footprint: Resistor_THT:R_Array_SIP11; Datasheet: http://www.vishay.com/docs/31509/csc.pdf; Description_: 9 voltage divider network, dual terminator, SIP package
pins: 1 COM1, 2 R1, 3 R2, 4 R3, 5 R4, 6 R5, 7 R6, 8 R7, 9 R8, 10 R9, 11 COM2

## R_Network_Dividers_x10_SIP
designator *  value R_Network_Dividers_x10_SIP  Reference: RN
10 voltage divider network, dual terminator, SIP package; ki_keywords: R network divider topology; ki_fp_filters: R?Array?SIP*; Footprint: Resistor_THT:R_Array_SIP12; Datasheet: http://www.vishay.com/docs/31509/csc.pdf; Description_: 10 voltage divider network, dual terminator, SIP package
pins: 1 COM1, 2 R1, 3 R2, 4 R3, 5 R4, 6 R5, 7 R6, 8 R7, 9 R8, 10 R9, 11 R10, 12 COM2

## R_Network_Dividers_x11_SIP
designator *  value R_Network_Dividers_x11_SIP  Reference: RN
11 voltage divider network, dual terminator, SIP package; ki_keywords: R network divider topology; ki_fp_filters: R?Array?SIP*; Footprint: Resistor_THT:R_Array_SIP13; Datasheet: http://www.vishay.com/docs/31509/csc.pdf; Description_: 11 voltage divider network, dual terminator, SIP package
pins: 1 COM1, 2 R1, 3 R2, 4 R3, 5 R4, 6 R5, 7 R6, 8 R7, 9 R8, 10 R9, 11 R10, 12 R11, 13 COM2

## R_Pack02
designator *  value R_Pack02  Reference: RN
2 resistor network, parallel topology; ki_keywords: R network parallel topology isolated; ki_fp_filters: DIP* SOIC* R*Array*Concave* R*Array*Convex*; Datasheet: ~; Description_: 2 resistor network, parallel topology
pins: 1 R1.1, 2 R2.1, 3 R2.2, 4 R1.2

## R_Pack02_SIP
designator *  value R_Pack02_SIP  Reference: RN
2 resistor network, parallel topology, SIP package; ki_keywords: R network parallel topology isolated; ki_fp_filters: R?Array?SIP*; Footprint: Resistor_THT:R_Array_SIP4; Datasheet: http://www.vishay.com/docs/31509/csc.pdf; Description_: 2 resistor network, parallel topology, SIP package
pins: 1 R1.1, 2 R1.2, 3 R2.1, 4 R2.2

## R_Pack02_SIP_Split
designator *  value R_Pack02_SIP_Split  Reference: RN
2 resistor network, parallel topology, SIP package, split; ki_keywords: R network parallel topology isolated; ki_fp_filters: R?Array?SIP*; Footprint: Resistor_THT:R_Array_SIP4; Datasheet: http://www.vishay.com/docs/31509/csc.pdf; Description_: 2 resistor network, parallel topology, SIP package, split
part A pins: 1 R1.1, 2 R1.2
part B pins: 3 R2.1, 4 R2.2

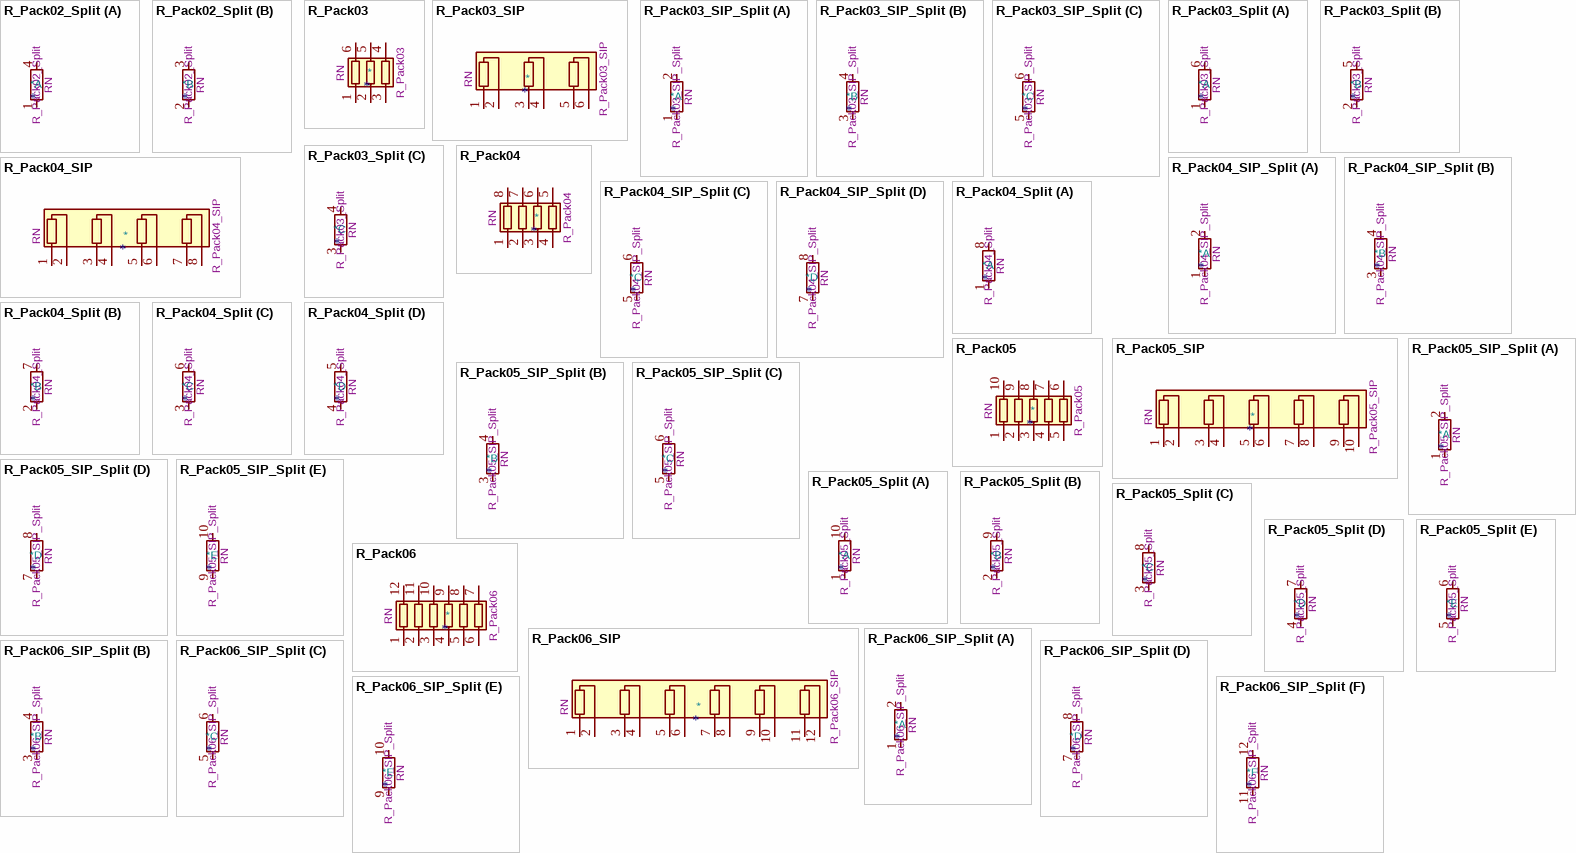
[diagram p16: symbols R_Pack02_Split to R_Pack06_SIP_Split]

## R_Pack02_Split
designator *  value R_Pack02_Split  Reference: RN
2 resistor network, parallel topology, split; ki_keywords: R network parallel topology isolated; ki_fp_filters: DIP* SOIC* R*Array*Concave* R*Array*Convex*; Datasheet: ~; Description_: 2 resistor network, parallel topology, split
part A pins: 1 R1.1, 4 R1.2
part B pins: 2 R2.1, 3 R2.2

## R_Pack03
designator *  value R_Pack03  Reference: RN
3 resistor network, parallel topology; ki_keywords: R network parallel topology isolated; ki_fp_filters: DIP* SOIC* R*Array*Concave* R*Array*Convex*; Datasheet: ~; Description_: 3 resistor network, parallel topology
pins: 1 R1.1, 2 R2.1, 3 R3.1, 4 R3.2, 5 R2.2, 6 R1.2

## R_Pack03_SIP
designator *  value R_Pack03_SIP  Reference: RN
3 resistor network, parallel topology, SIP package; ki_keywords: R network parallel topology isolated; ki_fp_filters: R?Array?SIP*; Footprint: Resistor_THT:R_Array_SIP6; Datasheet: http://www.vishay.com/docs/31509/csc.pdf; Description_: 3 resistor network, parallel topology, SIP package
pins: 1 R1.1, 2 R1.2, 3 R2.1, 4 R2.2, 5 R3.1, 6 R3.2

## R_Pack03_SIP_Split
designator *  value R_Pack03_SIP_Split  Reference: RN
3 resistor network, parallel topology, SIP package, split; ki_keywords: R network parallel topology isolated; ki_fp_filters: R?Array?SIP*; Footprint: Resistor_THT:R_Array_SIP6; Datasheet: http://www.vishay.com/docs/31509/csc.pdf; Description_: 3 resistor network, parallel topology, SIP package, split
part A pins: 1 R1.1, 2 R1.2
part B pins: 3 R2.1, 4 R2.2
part C pins: 5 R3.1, 6 R3.2

## R_Pack03_Split
designator *  value R_Pack03_Split  Reference: RN
3 resistor network, parallel topology, split; ki_keywords: R network parallel topology isolated; ki_fp_filters: DIP* SOIC* R*Array*Concave* R*Array*Convex*; Datasheet: ~; Description_: 3 resistor network, parallel topology, split
part A pins: 1 R1.1, 6 R1.2
part B pins: 2 R2.1, 5 R2.2
part C pins: 3 R3.1, 4 R3.2

## R_Pack04
designator *  value R_Pack04  Reference: RN
4 resistor network, parallel topology; ki_keywords: R network parallel topology isolated; ki_fp_filters: DIP* SOIC* R*Array*Concave* R*Array*Convex* MSOP*; Datasheet: ~; Description_: 4 resistor network, parallel topology
pins: 1 R1.1, 2 R2.1, 3 R3.1, 4 R4.1, 5 R4.2, 6 R3.2, 7 R2.2, 8 R1.2

## R_Pack04_SIP
designator *  value R_Pack04_SIP  Reference: RN
4 resistor network, parallel topology, SIP package; ki_keywords: R network parallel topology isolated; ki_fp_filters: R?Array?SIP*; Footprint: Resistor_THT:R_Array_SIP8; Datasheet: http://www.vishay.com/docs/31509/csc.pdf; Description_: 4 resistor network, parallel topology, SIP package
pins: 1 R1.1, 2 R1.2, 3 R2.1, 4 R2.2, 5 R3.1, 6 R3.2, 7 R4.1, 8 R4.2

## R_Pack04_SIP_Split
designator *  value R_Pack04_SIP_Split  Reference: RN
4 resistor network, parallel topology, SIP package, split; ki_keywords: R network parallel topology isolated; ki_fp_filters: R?Array?SIP*; Footprint: Resistor_THT:R_Array_SIP8; Datasheet: http://www.vishay.com/docs/31509/csc.pdf; Description_: 4 resistor network, parallel topology, SIP package, split
part A pins: 1 R1.1, 2 R1.2
part B pins: 3 R2.1, 4 R2.2
part C pins: 5 R3.1, 6 R3.2
part D pins: 7 R4.1, 8 R4.2

## R_Pack04_Split
designator *  value R_Pack04_Split  Reference: RN
4 resistor network, parallel topology, split; ki_keywords: R network parallel topology isolated; ki_fp_filters: DIP* SOIC* R*Array*Concave* R*Array*Convex* MSOP*; Datasheet: ~; Description_: 4 resistor network, parallel topology, split
part A pins: 1 R1.1, 8 R1.2
part B pins: 2 R2.1, 7 R2.2
part C pins: 3 R3.1, 6 R3.2
part D pins: 4 R4.1, 5 R4.2

## R_Pack05
designator *  value R_Pack05  Reference: RN
5 resistor network, parallel topology; ki_keywords: R network parallel topology isolated; ki_fp_filters: DIP* SOIC* R*Array*Concave* R*Array*Convex*; Datasheet: ~; Description_: 5 resistor network, parallel topology
pins: 1 R1.1, 2 R2.1, 3 R3.1, 4 R4.1, 5 R5.1, 6 R5.2, 7 R4.2, 8 R3.2, 9 R2.2, 10 R1.2

## R_Pack05_SIP
designator *  value R_Pack05_SIP  Reference: RN
5 resistor network, parallel topology, SIP package; ki_keywords: R network parallel topology isolated; ki_fp_filters: R?Array?SIP*; Footprint: Resistor_THT:R_Array_SIP10; Datasheet: http://www.vishay.com/docs/31509/csc.pdf; Description_: 5 resistor network, parallel topology, SIP package
pins: 1 R1.1, 2 R1.2, 3 R2.1, 4 R2.2, 5 R3.1, 6 R3.2, 7 R4.1, 8 R4.2, 9 R5.1, 10 R5.2

## R_Pack05_SIP_Split
designator *  value R_Pack05_SIP_Split  Reference: RN
5 resistor network, parallel topology, SIP package, split; ki_keywords: R network parallel topology isolated; ki_fp_filters: R?Array?SIP*; Footprint: Resistor_THT:R_Array_SIP10; Datasheet: http://www.vishay.com/docs/31509/csc.pdf; Description_: 5 resistor network, parallel topology, SIP package, split
part A pins: 1 R1.1, 2 R1.2
part B pins: 3 R2.1, 4 R2.2
part C pins: 5 R3.1, 6 R3.2
part D pins: 7 R4.1, 8 R4.2
part E pins: 9 R5.1, 10 R5.2

## R_Pack05_Split
designator *  value R_Pack05_Split  Reference: RN
5 resistor network, parallel topology, split; ki_keywords: R network parallel topology isolated; ki_fp_filters: DIP* SOIC* R*Array*Concave* R*Array*Convex*; Datasheet: ~; Description_: 5 resistor network, parallel topology, split
part A pins: 1 R1.1, 10 R1.2
part B pins: 2 R2.1, 9 R2.2
part C pins: 3 R3.1, 8 R3.2
part D pins: 4 R4.1, 7 R4.2
part E pins: 5 R5.1, 6 R5.2

## R_Pack06
designator *  value R_Pack06  Reference: RN
6 resistor network, parallel topology; ki_keywords: R network parallel topology isolated; ki_fp_filters: DIP* SOIC* R*Array*Concave* R*Array*Convex*; Datasheet: ~; Description_: 6 resistor network, parallel topology
pins: 1 R1.1, 2 R2.1, 3 R3.1, 4 R4.1, 5 R5.1, 6 R6.1, 7 R6.2, 8 R5.2, 9 R4.2, 10 R3.2, 11 R2.2, 12 R1.2

## R_Pack06_SIP
designator *  value R_Pack06_SIP  Reference: RN
6 resistor network, parallel topology, SIP package; ki_keywords: R network parallel topology isolated; ki_fp_filters: R?Array?SIP*; Footprint: Resistor_THT:R_Array_SIP12; Datasheet: http://www.vishay.com/docs/31509/csc.pdf; Description_: 6 resistor network, parallel topology, SIP package
pins: 1 R1.1, 2 R1.2, 3 R2.1, 4 R2.2, 5 R3.1, 6 R3.2, 7 R4.1, 8 R4.2, 9 R5.1, 10 R5.2, 11 R6.1, 12 R6.2

## R_Pack06_SIP_Split
designator *  value R_Pack06_SIP_Split  Reference: RN
6 resistor network, parallel topology, SIP package, split; ki_keywords: R network parallel topology isolated; ki_fp_filters: R?Array?SIP*; Footprint: Resistor_THT:R_Array_SIP12; Datasheet: http://www.vishay.com/docs/31509/csc.pdf; Description_: 6 resistor network, parallel topology, SIP package, split
part A pins: 1 R1.1, 2 R1.2
part B pins: 3 R2.1, 4 R2.2
part C pins: 5 R3.1, 6 R3.2
part D pins: 7 R4.1, 8 R4.2
part E pins: 9 R5.1, 10 R5.2
part F pins: 11 R6.1, 12 R6.2

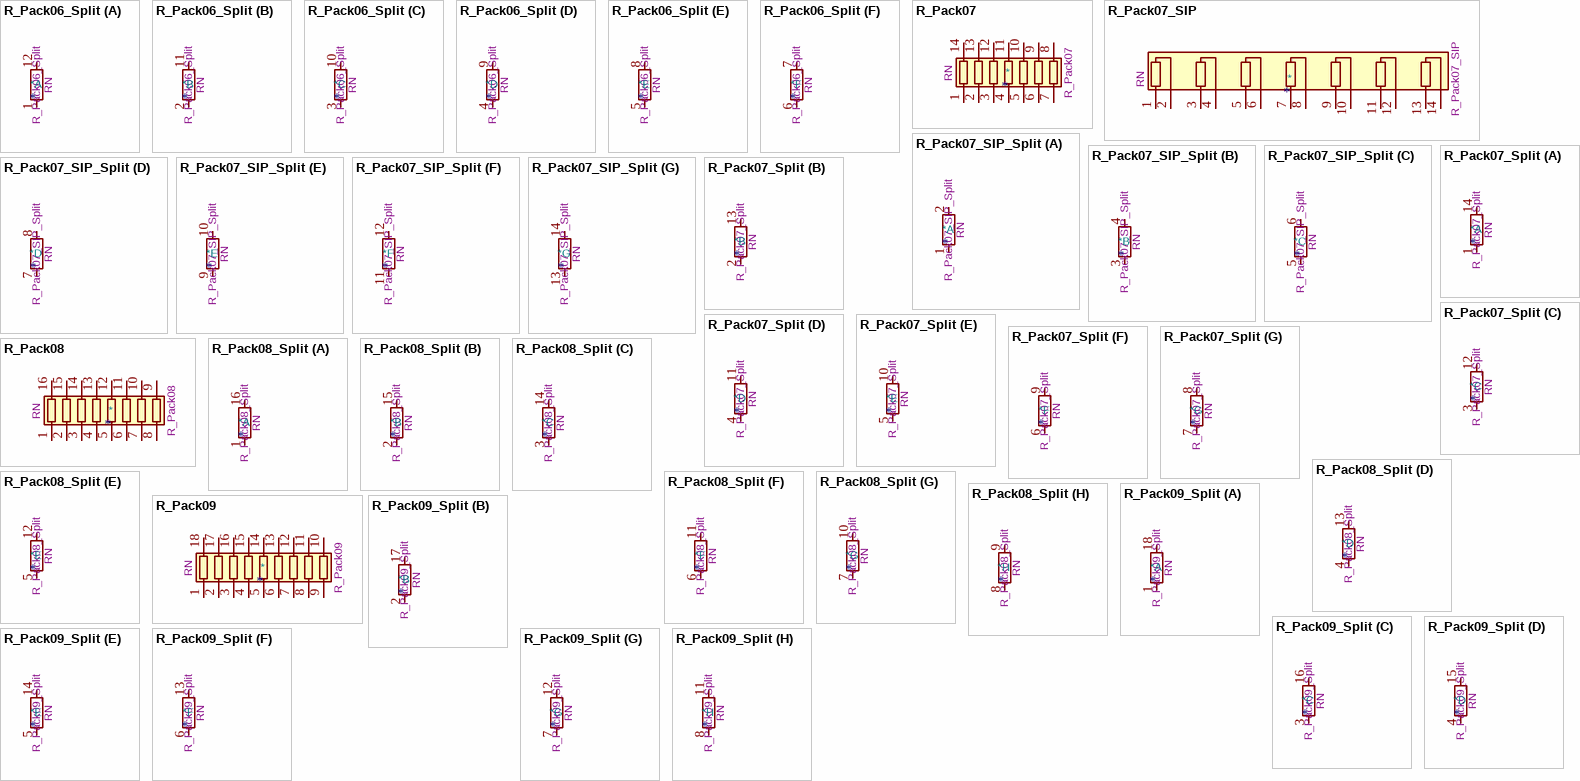
[diagram p17: symbols R_Pack06_Split to R_Pack09_Split]

## R_Pack06_Split
designator *  value R_Pack06_Split  Reference: RN
6 resistor network, parallel topology, split; ki_keywords: R network parallel topology isolated; ki_fp_filters: DIP* SOIC* R*Array*Concave* R*Array*Convex*; Datasheet: ~; Description_: 6 resistor network, parallel topology, split
part A pins: 1 R1.1, 12 R1.2
part B pins: 2 R2.1, 11 R2.2
part C pins: 3 R3.1, 10 R3.2
part D pins: 4 R4.1, 9 R4.2
part E pins: 5 R5.1, 8 R5.2
part F pins: 6 R6.1, 7 R6.2

## R_Pack07
designator *  value R_Pack07  Reference: RN
7 resistor network, parallel topology; ki_keywords: R network parallel topology isolated; ki_fp_filters: DIP* SOIC* R*Array*Concave* R*Array*Convex*; Datasheet: ~; Description_: 7 resistor network, parallel topology
pins: 1 R1.1, 2 R2.1, 3 R3.1, 4 R4.1, 5 R5.1, 6 R6.1, 7 R7.1, 8 R7.2, 9 R6.2, 10 R5.2, 11 R4.2, 12 R3.2, 13 R2.2, 14 R1.2